# Altium schematic symbol library SensorPCBA.SchLib: 4 symbols
Pins are listed as number, name and electrical type; pins without a type are passive.

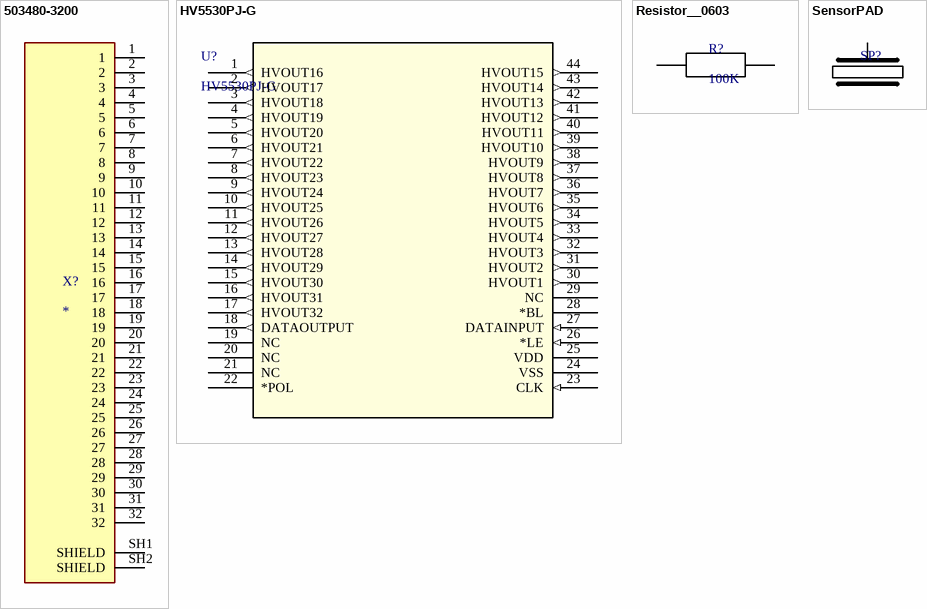
[diagram p0: symbols 503480-3200 to SensorPAD]

## 503480-3200
designator X?
32 Position FFC, FPC Connector Contacts, Top and Bottom 0.020 (0.50mm) Surface Mount, Right Angle; MF: Molex; MP: 5034803200; SnapEDA_Link: https://www.snapeda.com/parts/5034803200/Molex/view-part/?ref=snap; Package: None; Value: *; Check_prices: https://www.snapeda.com/parts/5034803200/Molex/view-part/?ref=eda
footprint MOLEX_503480-3200
pins: 1, 2, 3, 4, 5, 6, 7, 8, 9, 10, 11, 12, 13, 14, 15, 16, 17, 18, 19, 20, 21, 22, 23, 24, 25, 26, 27, 28, 29, 30, 31, 32, SH1 SHIELD, SH2 SHIELD

## HV5530PJ-G
designator U?
No Description Available; Manufacturer_Name: Microchip; Copyright: Copyright (C) 2026 Ultra Librarian. All rights reserved.; Manufacturer_Part_Number: HV5530PJ-G; RefDes: RefDes; Type: Type
footprint PLCC44_MC_MCH-M
pins: 1 HVOUT16 (out), 2 HVOUT17 (out), 3 HVOUT18 (out), 4 HVOUT19 (out), 5 HVOUT20 (out), 6 HVOUT21 (out), 7 HVOUT22 (out), 8 HVOUT23 (out), 9 HVOUT24 (out), 10 HVOUT25 (out), 11 HVOUT26 (out), 12 HVOUT27 (out), 13 HVOUT28 (out), 14 HVOUT29 (out), 15 HVOUT30 (out), 16 HVOUT31 (out), 17 HVOUT32 (out), 18 DATAOUTPUT (out), 19 NC, 20 NC, 21 NC, 22 *POL, 23 CLK (in), 24 VSS (power), 25 VDD (power), 26 *LE (in), 27 DATAINPUT (in), 28 *BL, 29 NC, 30 HVOUT1 (out), 31 HVOUT2 (out), 32 HVOUT3 (out), 33 HVOUT4 (out), 34 HVOUT5 (out), 35 HVOUT6 (out), 36 HVOUT7 (out), 37 HVOUT8 (out), 38 HVOUT9 (out), 39 HVOUT10 (out), 40 HVOUT11 (out), 41 HVOUT12 (out), 42 HVOUT13 (out), 43 HVOUT14 (out), 44 HVOUT15 (out)

## Resistor__0603
designator R?, comment 100K
footprint RESC1608X55N
pins: 1, 2

## SensorPAD
designator SP?  (value not drawn)
footprint Pump_via
pins: 1 Atop